# EAGLE library part MM74HCT244N (library Fairchild_By_element14_Batch_1)
Inverting Octal 3-STATE Buffer
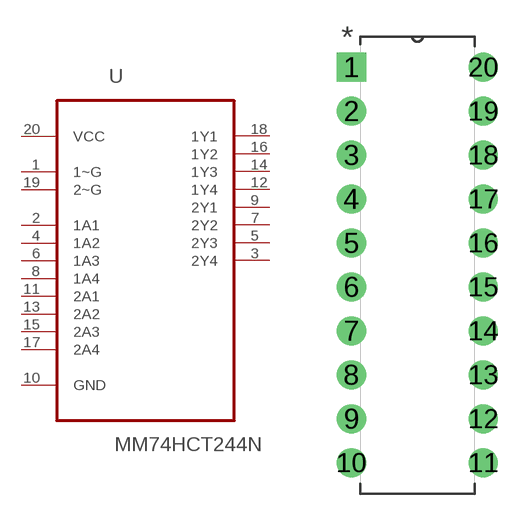
[diagram p320: symbol with the pads of DIP254P762X508-20; footprint DIP254P762X508-20]

Designator prefix U

## MM74HCT244N (MPN: MM74HCT244N; OC_FARNELL: 1014001; OC_NEWARK: 18C7559; PACKAGE: PDIP-20; SUPPLIER: Fairchild)  [DIP254P762X508-20]
1  1~G  in
2  1A1  in
3  2Y4  out
4  1A2  in
5  2Y3  out
6  1A3  in
7  2Y2  out
8  1A4  in
9  2Y1  out
10  GND  pas
11  2A1  in
12  1Y4  out
13  2A2  in
14  1Y3  out
15  2A3  in
16  1Y2  out
17  2A4  in
18  1Y1  out
19  2~G  in
20  VCC  pwr

## Footprint DIP254P762X508-20 (pad centres in mm)
drill 1.118 square: 1 -7.62,22.86
drill 1.118: 2 -7.62,20.32; 3 -7.62,17.78; 4 -7.62,15.24; 5 -7.62,12.7; 6 -7.62,10.16; 7 -7.62,7.62; 8 -7.62,5.08; 9 -7.62,2.54; 10 -7.62,0; 11 0,0; 12 0,2.54; 13 0,5.08; 14 0,7.62; 15 0,10.16; 16 0,12.7; 17 0,15.24; 18 0,17.78; 19 0,20.32; 20 0,22.86